# EAGLE library part B0101001 (library con-amphenol)
AMPHENOL CONNECTOR
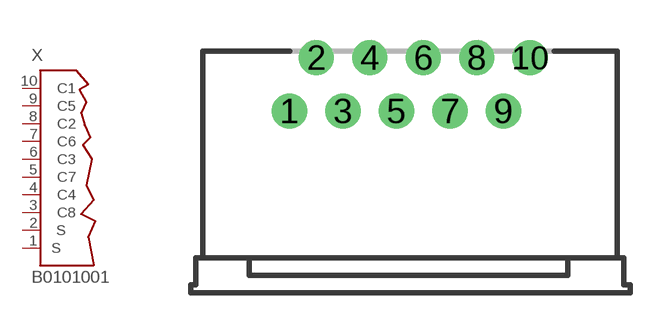
[diagram p5: symbol with the pads of B0101001; footprint B0101001]

Designator prefix X

## B0101001 (MF: AMPHENOL; MPN: C00710B0101001; OC_FARNELL: unknown; OC_NEWARK: 07C1376)  [B0101001]
1  S1  pas
2  S2  pas
3  C8  pas
4  C4  pas
5  C7  pas
6  C3  pas
7  C6  pas
8  C2  pas
9  C5  pas
10  C1  pas

## Footprint B0101001 (pad centres in mm)
AMPHENOL CONNECTOR
drill 0.813 round: 1 -4.5,-1; 2 -3.5,1; 3 -2.5,-1; 4 -1.5,1; 5 -0.5,-1; 6 0.5,1; 7 1.5,-1; 8 2.5,1; 9 3.5,-1; 10 4.5,1